# Altium footprint library PcbLib1.PcbLib: 226 footprints (part 15 of 15)
Each footprint in its own frame and in the unit in brackets; x right, y up, seen from the top. Pads: shape width x height; smd on the part's side, far side on the other; paste and mask are expansions set on the pad; w line width, h text height; cw(c..) or ccw(c..) is an arc to the next point about the centre after c.
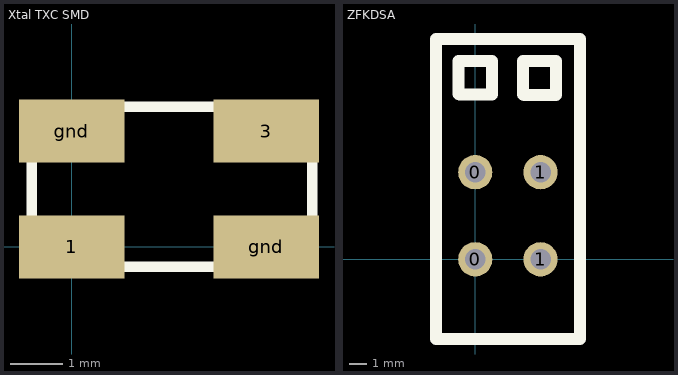
[diagram p14: the footprints below, top view; thin cyan lines are the x and y axes]

## Xtal TXC SMD [mm]
height 1
pads (4):
  rect 2x1.2 smd: 1(0,0) 3(3.7,2.2) gnd(0,2.2) gnd(3.7,0)
Top Overlay:
  lines w0.2: -0.762,-0.381 -0.762,2.667 4.572,2.667 4.572,-0.381 -0.762,-0.381

## ZFKDSA [mm]
height 15
pads (4):
  round 2 hole 1.2: 0(0,0) 0(0,5.08) 1(3.81,0) 1(3.81,5.08)
Top Overlay:
  lines w0.7: -2.3,-4.634 -2.3,12.85 0,12.85 0.002,12.852 6.121,12.852 6.11,12.841 6.11,-4.65 ; -2.286,-4.648 6.108,-4.648 ; -0.965,9.652 -0.965,11.582 0.965,11.582 0.965,11.557 0.965,9.627 0.94,9.601 -0.914,9.601 -0.965,9.652 ; 2.794,9.627 2.794,11.557 4.724,11.557 4.724,11.532 4.724,9.601 4.699,9.576 2.845,9.576 2.794,9.627